# Altium footprint library S6B-PH-K-S(LF)(SN).PcbLib: 1 footprints
Each footprint in its own frame and in the unit in brackets; x right, y up, seen from the top. Pads: shape width x height; smd on the part's side, far side on the other; paste and mask are expansions set on the pad; w line width, h text height; cw(c..) or ccw(c..) is an arc to the next point about the centre after c.
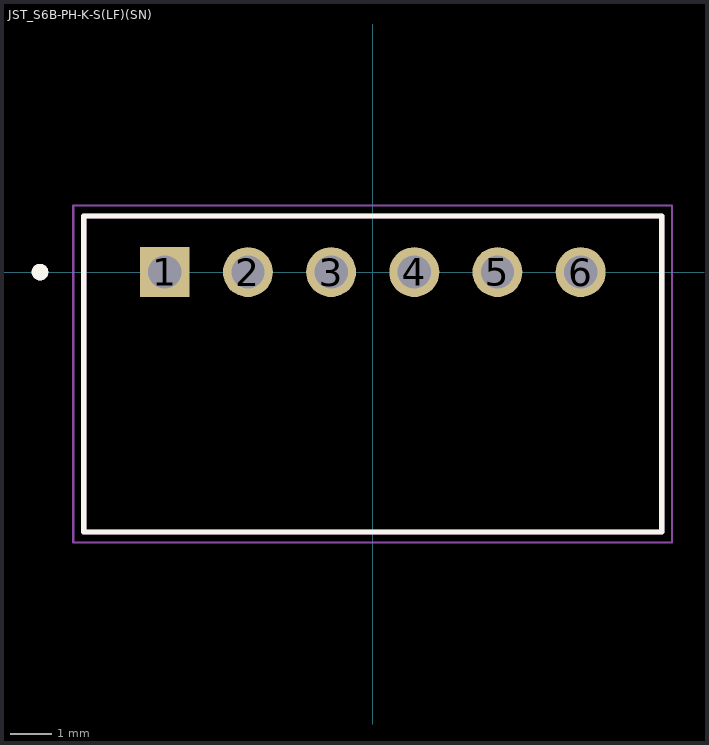
[diagram p0: the footprint, top view; thin cyan lines are the x and y axes]

## JST_S6B-PH-K-S(LF)(SN) [mm]
pads (6):
  rect 1.2x1.2 hole 0.8: 1(-5,0)
  round 1.2 hole 0.8: 2(-3,0) 3(-1,0) 4(1,0) 5(3,0) 6(5,0)
Top Overlay:
  circle w0.2: c-8,0 r0.1
  lines w0.127: -6.95,-6.25 -6.95,1.35 6.95,1.35 6.95,-6.25 -6.95,-6.25
Mechanical 13:
  circle w0.2: c-8,0 r0.1
  lines w0.127: -6.95,-6.25 -6.95,1.35 6.95,1.35 6.95,-6.25 -6.95,-6.25
Mechanical 15:
  lines w0.05: -7.2,-6.5 7.2,-6.5 7.2,1.6 -7.2,1.6 -7.2,-6.5
3D body "step_temp.STEP": height 4.8, standoff -3.38, extent -6.95,-3.8 6.95,3.8